# Altium schematic symbol library Passives.SchLib: 73 symbols (part 3 of 3)
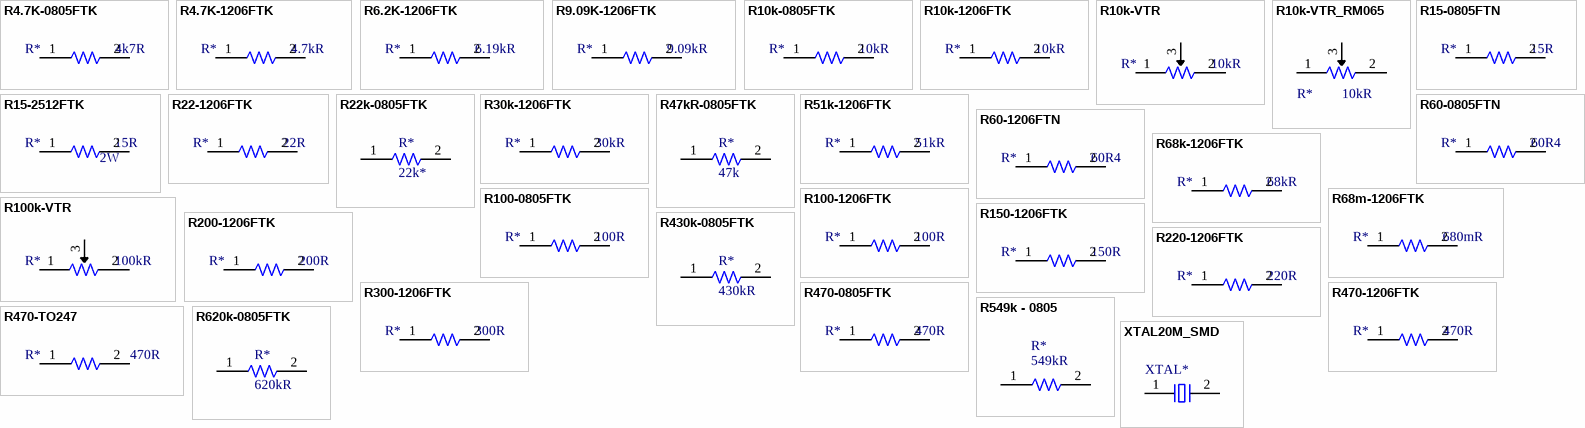
[diagram p3: symbols R4.7K-0805FTK to XTAL20M_SMD]

## R68m-1206FTK
designator R*  Resistance: 680mR
Thick Film Surface Mount Chip Resistor 1206 Size 0.68 Ohm 5% 0.5 W ±100 ppm/°C 2-Pin SMD T/R; Manufacturer 1: Vishay; Manufacturer Part Number 1: RCWE1206R680JKEA; Max Power Dissipation: 500mW; Supplier 1: Avnet; RoHS: Yes; Category: Chip SMD Resistors; Pricing 1: 5000=0,23581, 10000=0,22825, 20000=0,22069, 30000=0,21313, 40000=0,20488, 50000=0,19525, 500000=0,18563 (USD); Case/Package: 1206; Min Operating Temperature: -55°C; Max Operating Temperature: 155°C; Tolerance: 5%; Resistor Type: Thick Film; Packaging: Tape and Reel; Number of Terminations: 2; Temperature Coefficient: 100ppm/°C; Features: Moisture Resistant,Automotive AEC-Q200; Length: 0.122inch; Width: 0.063inch; Height: 0.028inch; Depth: 1.6mm; Military Standard: Not; RoHS Compliant: Yes; ComponentLink1URL: http://www.vishay.com/docs/20019/rcwe.pdf?src-supplier=Digi-Key; ComponentLink1Description: http://www.vishay.com/docs/20019/rcwe.pdf?src-supplier=Digi-Key; Supplier Part Number 1: RCWE1206R680JKEA
footprint R1206FTK-R (Chip Resistor, 2-Leads, Body 3,15x1,60mm, IPC Medium Density)
footprint R1206FTK-W (Chip Resistor, 2-Leads, Body 3,15x1,60mm, IPC Medium Density)
pins: 1, 2

## R100-0805FTK
designator R*, comment Resistance: 100R  (hidden comment: CR0805-FX-1000ELF)
Res Thick Film 0805 100 Ohm 1% 1/8W ±100ppm/°C Molded SMD SMD Paper Tape on Plastic Reel; Manufacturer 1: Bourns; Power Rating: 125mW; Voltage Rating: 150V; .Creator: DR; Supplier 1: Arrow Electronics; Manufacturer Part Number 1: CR0805-FX-1000ELF; RoHS: Yes; Category: Chip SMD Resistors; Stock 1: 49802; Pricing 1: 1=0,05840, 10=0,03430, 25=0,01780, 100=0,00750, 250=0,00560, 500=0,00490, 3000=0,00470 (USD); Mount: Surface Mount; Case/Package: 0805; Number of Pins: 2; Contact Plating: Tin; Case Code (Imperial): 0805; Case Code (Metric): 2012; Min Operating Temperature: -55°C; Max Operating Temperature: 155°C; Tolerance: 1%; Resistor Type: Thick Film; Temperature Coefficient: 100ppm/°C; Packaging: Tape and Reel; Package Quantity: 1; Termination: SMD/SMT; Number of Terminations: 2; Max Power Dissipation: 125mW; Voltage Rating (DC): 150V; Features: Moisture Resistant; Series: CR0805; Resistance Tolerance: 1%; Construction: Rectangular; Technology: THICK FILM; Length: 2mm; Width: 1.25mm; Height: 0.5mm; Depth: 1.25mm; Thickness: 508um; Radiation Hardening: No; REACH SVHC: No SVHC; Military Standard: Not; RoHS Compliant: Yes; ComponentLink1URL: https://datasheet.ciiva.com/11809/0900766b80fcdb72-11809178.pdf?src-supplier=RSComponents; ComponentLink1Description: https://datasheet.ciiva.com/11809/0900766b80fcdb72-11809178.pdf?src-supplier=RSComponents; ComponentLink2URL: https://datasheet.ciiva.com/6547/chpreztr-6547413.pdf?src-supplier=Digi-Key; ComponentLink2Description: https://datasheet.ciiva.com/6547/chpreztr-6547413.pdf?src-supplier=Digi-Key; ComponentLink3URL: https://datasheet.ciiva.com/6547/chpreztr-6547414.pdf?src-supplier=Digi-Key; ComponentLink3Description: https://datasheet.ciiva.com/6547/chpreztr-6547414.pdf?src-supplier=Digi-Key; ComponentLink4URL: https://datasheet.ciiva.com/6547/chpreztr-6547415.pdf?src-supplier=Digi-Key; ComponentLink4Description: https://datasheet.ciiva.com/6547/chpreztr-6547415.pdf?src-supplier=Digi-Key; ComponentLink5URL: https://datasheet.ciiva.com/9120/chpreztr-9120744.pdf?src-supplier=Avnet; ComponentLink5Description: https://datasheet.ciiva.com/9120/chpreztr-9120744.pdf?src-supplier=Avnet; Supplier Part Number 1: CR0805-FX-1000ELF
footprint R0805FTK (Chip Resistor, 2-Leads, Body 2,00x1,25mm, IPC Medium Density)
pins: 1, 2

## R100-1206FTK
designator R*, comment Resistance: 100R  (hidden comment: CRG1206F100R)
Res Thick Film 1206 100 Ohm 1% 0.25W(1/4W) ±200ppm/C Pad SMD T/R; Manufacturer: TE Connectivity; Temperature Coefficient: 200ppm/°C; Max Power Dissipation: 250mW; Voltage Rating: 200V; Number of Resistors: 1; .Creator: AC; Category: Resistor; ComponentLink1Description: Datasheet; ComponentLink1URL: https://docs.rs-online.com/7aab/0900766b815b7339.pdf; ComponentLink2Description: Where buy it; ComponentLink2URL: https://es.rs-online.com/web/p/resistencias-de-montaje-en-superficie/2232120; Supplier 1: Digi-Key; Manufacturer Part Number: CRG1206F100R; RoHS: Yes; Stock 1: 13476; Pricing 1: 1=0,10000, 10=0,07600, 100=0,02920, 1000=0,01285, 2500=0,01110 (USD); Mount: Surface Mount; Case/Package: 1206; Case Code (Imperial): 1206; Case Code (Metric): 3216; Weight: 0.000571oz; Min Operating Temperature: -55°C; Max Operating Temperature: 125°C; Tolerance: 1%; Resistor Type: Thick Film; Packaging: Tape and Reel; Package Quantity: 5000; Number of Terminations: 2; Series: CRG, Neohm; Power Rating: 250mW; Termination: Solder; Technology: THICK FILM; Length: 3.1mm; Width: 1.55mm; Height: 0.55mm; Depth: 1.55mm; Radiation Hardening: No; RoHS Compliant: Yes; ELV: Compliant; ComponentLink3URL: https://datasheet.ciiva.com/11808/0900766b800a696e-11808648.pdf?src-supplier=RSComponents; ComponentLink3Description: https://datasheet.ciiva.com/11808/0900766b800a696e-11808648.pdf?src-supplier=RSComponents; ComponentLink4URL: https://datasheet.ciiva.com/16763/70063020-16763547.pdf?src-supplier=Allied+Electronics; ComponentLink4Description: https://datasheet.ciiva.com/16763/70063020-16763547.pdf?src-supplier=Allied+Electronics; ComponentLink5URL: https://datasheet.ciiva.com/5562/eng-ds-1773204-g-5562604.pdf?src-supplier=Mouser; ComponentLink5Description: https://datasheet.ciiva.com/5562/eng-ds-1773204-g-5562604.pdf?src-supplier=Mouser; Supplier Part Number 1: A106068CT-ND
footprint R1206FTK-R (Chip Resistor, 2-Leads, Body 3,15x1,60mm, IPC Medium Density)
footprint R1206FTK-W (Chip Resistor, 2-Leads, Body 3,15x1,60mm, IPC Medium Density)
pins: 1, 2

## R100k-VTR
designator R*, comment Resistance: 100kR  (hidden comment: 3296W-1-104LF)
Trimmer, Cermet, Rest 100 Kilohms, PCB, 25 Turns, Pwr-Rtg 0.5W, 3296 Series; Manufacturer: Bourns; Tolerance: 10%; Power Rating: 500mW; Temperature Coefficient: 100ppm/°C; Number of Turns: 25; Insulation Resistance: 1GR; .Creator: DO; Supplier 1: RSComponents; Manufacturer Part Number: 3296W-1-104LF; RoHS: Yes; Category: Variable Resistors and Potentiometers; Stock 1: 1; Pricing 1: 1=3,86000, 25=3,63200, 50=3,28400, 100=3,05600, 250=2,73400 (USD); Mount: Panel,Through Hole,PCB; Weight: 0.03oz; Color: Blue; Contact Plating: Tin,Matte; Min Operating Temperature: -55°C; Max Operating Temperature: 125°C; Packaging: Rail/Tube; Package Quantity: 50; Resistor Type: Cermet; Termination: Pin; Taper: Linear; Max Power Dissipation: 500mW; Series: 3296; Technology: CERMET; Resistance Tolerance: 10%; Length: 9.53mm; Width: 9.53mm; Height: 0.395inch; Depth: 4.83mm; Radiation Hardening: No; RoHS Compliant: Yes; REACH SVHC: No SVHC; Lead Free: Lead Free; Military Standard: Not; ComponentLink1URL: https://datasheet.ciiva.com/19454/853599-19454875.pdf?src-supplier=Jameco; ComponentLink1Description: https://datasheet.ciiva.com/19454/853599-19454875.pdf?src-supplier=Jameco; ComponentLink2URL: https://datasheet.ciiva.com/11832/0900766b8069ccf4-11832242.pdf?src-supplier=RSComponents; ComponentLink2Description: https://datasheet.ciiva.com/11832/0900766b8069ccf4-11832242.pdf?src-supplier=RSComponents; ComponentLink3URL: https://datasheet.ciiva.com/29122/447278-da-01-en-trimmer-tht3296w-1-104lf-100k-0-5w-29122363.pdf?src-supplier=Conrad; ComponentLink3Description: https://datasheet.ciiva.com/29122/447278-da-01-en-trimmer-tht3296w-1-104lf-100k-0-5w-29122363.pdf?src-supplier=Conrad; ComponentLink4URL: https://datasheet.ciiva.com/3266/3296-3266188.pdf?src-supplier=Avnet; ComponentLink4Description: https://datasheet.ciiva.com/3266/3296-3266188.pdf?src-supplier=Avnet; ComponentLink5URL: https://datasheet.ciiva.com/25907/3296-25907238.pdf?src-supplier=Avnet+Europe; ComponentLink5Description: https://datasheet.ciiva.com/25907/3296-25907238.pdf?src-supplier=Avnet+Europe; ComponentLink6URL: https://datasheet.ciiva.com/2156/3296-2156895.pdf?src-supplier=Digi-Key; ComponentLink6Description: https://datasheet.ciiva.com/2156/3296-2156895.pdf?src-supplier=Digi-Key; ComponentLink7URL: https://datasheet.ciiva.com/30157/3296-30157434.pdf?src-supplier=Onlinecomponents.com; ComponentLink7Description: https://datasheet.ciiva.com/30157/3296-30157434.pdf?src-supplier=Onlinecomponents.com; ComponentLink8URL: https://datasheet.ciiva.com/20164/68-0300e-20164060.pdf?src-supplier=Rapid+Electronics; ComponentLink8Description: https://datasheet.ciiva.com/20164/68-0300e-20164060.pdf?src-supplier=Rapid+Electronics; ComponentLink9URL: https://datasheet.ciiva.com/18411/70153578-18411565.pdf?src-supplier=Allied+Electronics; ComponentLink9Description: https://datasheet.ciiva.com/18411/70153578-18411565.pdf?src-supplier=Allied+Electronics; ComponentLink10URL: https://datasheet.ciiva.com/1131/1815117-1131274.pdf?src-supplier=Element14; ComponentLink10Description: https://datasheet.ciiva.com/1131/1815117-1131274.pdf?src-supplier=Element14; ComponentLink11Description: Where buy it; ComponentLink11URL: https://es.rs-online.com/web/p/potenciometros-de-ajuste/5219653; Supplier Part Number 1: 5219653P
pins: 1 2, 2, 3

## R150-1206FTK
designator R*, comment Resistance: 150R  (hidden comment: CRG1206F150R)
Res Thick Film 1206 150 Ohm 1% 0.25W(1/4W) ±100ppm/C Pad SMD T/R; Manufacturer: TE Connectivity; Temperature Coefficient: 100ppm/°C; Max Power Dissipation: 250mW; Voltage Rating: 200V; Number of Resistors: 1; .Creator: GP; Category: Resistor; ComponentLink1Description: Datasheet; ComponentLink1URL: https://docs.rs-online.com/5dac/0900766b813e2406.pdf; ComponentLink2Description: Where buy it; ComponentLink2URL: https://es.rs-online.com/web/p/resistencias-de-montaje-en-superficie/2232142; Supplier 1: RSComponents; Manufacturer Part Number: CRG1206F150R; RoHS: Yes; Stock 1: 1; Pricing 1: 50=0,05500, 500=0,05100, 1000=0,04600, 2000=0,04100, 4000=0,03600 (USD); Mount: Surface Mount; Case/Package: 1206; Case Code (Imperial): 1206; Case Code (Metric): 3216; Weight: 0.000571oz; Min Operating Temperature: -55°C; Max Operating Temperature: 125°C; Tolerance: 1%; Packaging: Tape and Reel; Resistor Type: Thick Film; Package Quantity: 5000; Number of Terminations: 2; Series: CRG, Neohm; Power Rating: 250mW; Termination: Solder; Technology: THICK FILM; Length: 3.1mm; Width: 1.55mm; Height: 0.55mm; Depth: 1.55mm; RoHS Compliant: Yes; ELV: Compliant; Supplier Part Number 1: 2232142
footprint R1206FTK-R (Chip Resistor, 2-Leads, Body 3,15x1,60mm, IPC Medium Density)
footprint R1206FTK-W (Chip Resistor, 2-Leads, Body 3,15x1,60mm, IPC Medium Density)
pins: 1, 2

## R200-1206FTK
designator R*, comment Resistance: 200R  (hidden comment: ERJP08F2000V)
Res Thick Film 1206 200 Ohm 1% 0.33W ±100ppm/°C Molded SMD Punched Carrier T/R; Manufacturer: Panasonic; Power Rating: 660mW; Voltage Rating: 500V; Voltage Rating (DC): 200V; .Creator: CP; Category: Resistor; ComponentLink1Description: Datasheet; ComponentLink1URL: https://docs.rs-online.com/ef78/0900766b812cb812.pdf; ComponentLink2Description: Where buy it; ComponentLink2URL: https://es.rs-online.com/web/p/resistencias-de-montaje-en-superficie/7219765; Supplier 1: RSComponents; Manufacturer Part Number: ERJP08F2000V; RoHS: Yes; Stock 1: 1; Pricing 1: 5=0,43800, 50=0,40800, 100=0,38100, 250=0,35400, 500=0,32400 (USD); Mount: Surface Mount; Case/Package: 1206; Number of Pins: 2; Case Code (Imperial): 1206; Case Code (Metric): 3216; Contact Plating: Tin; Min Operating Temperature: -55°C; Max Operating Temperature: 155°C; Tolerance: 1%; Packaging: Tape and Reel; Package Quantity: 5000; Resistor Type: Thick Film; Termination: SMD/SMT; Temperature Coefficient: 100ppm/°C; Length: 3.2mm; Width: 1.6mm; Height: 0.6mm; Depth: 1.6mm; REACH SVHC: No SVHC; Military Standard: Not; RoHS Compliant: Yes; Supplier Part Number 1: 7219765P
footprint R1206FTK-W (Chip Resistor, 2-Leads, Body 3,15x1,60mm, IPC Medium Density)
footprint R1206FTK-R (Chip Resistor, 2-Leads, Body 3,15x1,60mm, IPC Medium Density)
pins: 1, 2

## R220-1206FTK
designator R*, comment Resistence: 220R  (hidden comment: CMP1206AFX-2200ELF)
Resistor, ResHighPowerA 1206 220R 1% 3/4W TC100; Manufacturer: Bourns; .Creator: GP; Supplier 1: Newark; Manufacturer Part Number: CMP1206AFX-2200ELF; RoHS: Yes; Category: Chip SMD Resistors; Stock 1: 5050; Pricing 1: 1=0,39000, 25=0,25600, 50=0,18500, 100=0,11400, 250=0,11000, 500=0,10700 (USD); Supplier Part Number 1: 76AH2292; ComponentLink1Description: Where buy it; ComponentLink1URL: https://www.mouser.es/ProductDetail/Bourns/CMP1206AFX-2200ELF?qs=TiOZkKH1s2Sl2IuwMb%2Fi2w%3D%3D; ComponentLink2Description: Datasheet; ComponentLink2URL: https://www.mouser.es/datasheet/2/54/cmp_a-1869326.pdf
footprint R1206FTK-R (Chip Resistor, 2-Leads, Body 3,15x1,60mm, IPC Medium Density)
footprint R1206FTK-W (Chip Resistor, 2-Leads, Body 3,15x1,60mm, IPC Medium Density)
pins: 1, 2

## R300-1206FTK
designator R*, comment Resistance: 300R  (hidden comment: CRCW1206300RFKEA)
Resistor;  Thick Film;  300 Ohms;  0.25 W;  1%;  SMT;  1206;  TCR 37 ppm/DegC;  Tape and Reel; Manufacturer: Vishay; Temperature Coefficient: 100ppm/°C; Max Power Dissipation: 250mW; Voltage Rating: 200V; .Creator: DO; Category: Resistor; ComponentLink1Description: Datasheet; ComponentLink1URL: https://docs.rs-online.com/6ae4/0900766b8172839d.pdf; ComponentLink2Description: Where buy it; ComponentLink2URL: https://es.rs-online.com/web/p/resistencias-de-montaje-en-superficie/6792027; Supplier 1: Digi-Key; Manufacturer Part Number: CRCW1206300RFKEA; RoHS: Yes; Stock 1: 38; Pricing 1: 1=0,10000, 10=0,08200, 100=0,03160, 1000=0,01392, 2500=0,01202 (USD); Mount: Surface Mount; Case/Package: 1206; Contact Plating: Tin; Weight: 0.000353oz; Case Code (Metric): 3216; Case Code (Imperial): 1206; Min Operating Temperature: -55°C; Max Operating Temperature: 155°C; Tolerance: 1%; Resistor Type: Thick Film; Packaging: Tape and Reel; Number of Terminations: 2; Features: Automotive AEC-Q200; Series: CRCW; Power Rating: 250mW; Package Quantity: 10; Termination: SMD/SMT; Voltage Rating (DC): 200V; Working Voltage: 200V; Resistance Tolerance: 1%; Technology: THICK FILM; Construction: Rectangular; Length: 3.2mm; Width: 0.063inch; Height: 0.55mm; Depth: 1.6mm; Radiation Hardening: No; Lead Free: Lead Free; RoHS Compliant: Yes; REACH SVHC: Unknown; Military Standard: Not; Supplier Part Number 1: 541-300FCT-ND
footprint R1206FTK-R (Chip Resistor, 2-Leads, Body 3,15x1,60mm, IPC Medium Density)
footprint R1206FTK-W (Chip Resistor, 2-Leads, Body 3,15x1,60mm, IPC Medium Density)
pins: 1, 2

## R430k-0805FTK
designator R*, comment 430kR
footprint R0805FTK (Chip Resistor, 2-Leads, Body 2,00x1,25mm, IPC Medium Density)
pins: 1, 2

## R470-0805FTK
designator R*, comment Resistance: 470R  (hidden comment: CR0805-FX-4700GLF)
Res Thick Film 0805 470 Ohm 1% 1/8W ±100ppm/°C Molded SMD SMD Paper Tape on Plastic Reel; Manufacturer 1: Bourns; Power Rating: 125mW; Voltage Rating: 150V; .Creator: DR; Supplier 1: Arrow Electronics; Manufacturer Part Number 1: CR0805-FX-4700GLF; RoHS: Yes; Category: Chip SMD Resistors; Stock 1: 12623; Pricing 1: 1=0,00990, 10=0,00980, 25=0,00950, 50=0,00940, 100=0,00930, 250=0,00920, 500=0,00910, 1000=0,00890, 3000=0,00870, 6000=0,00860 (USD); Mount: Surface Mount; Case/Package: 0805; Number of Pins: 2; Case Code (Imperial): 0805; Case Code (Metric): 2012; Contact Plating: Tin; Min Operating Temperature: -55°C; Max Operating Temperature: 155°C; Packaging: Tape and Reel; Tolerance: 1%; Resistor Type: Thick Film; Termination: SMD/SMT; Temperature Coefficient: 100ppm/°C; Voltage Rating (DC): 150V; Features: Moisture Resistant; Series: CR0805; Max Power Dissipation: 125mW; Number of Terminations: 2; Resistance Tolerance: 1%; Construction: Rectangular; Technology: THICK FILM; Length: 2mm; Height: 0.5mm; Depth: 1.25mm; Thickness: 508um; Radiation Hardening: No; REACH SVHC: No SVHC; Military Standard: Not; ComponentLink1URL: https://datasheet.ciiva.com/11808/0900766b80fcdb72-11808686.pdf?src-supplier=RSComponents; ComponentLink1Description: https://datasheet.ciiva.com/11808/0900766b80fcdb72-11808686.pdf?src-supplier=RSComponents; ComponentLink2URL: https://datasheet.ciiva.com/7985/1856384-7985880.pdf?src-supplier=Element14; ComponentLink2Description: https://datasheet.ciiva.com/7985/1856384-7985880.pdf?src-supplier=Element14; ComponentLink3URL: https://datasheet.ciiva.com/22693/1902866-22693247.pdf?src-supplier=Element14; ComponentLink3Description: https://datasheet.ciiva.com/22693/1902866-22693247.pdf?src-supplier=Element14; ComponentLink4URL: https://datasheet.ciiva.com/5541/chpreztr-5541930.pdf?src-supplier=Mouser; ComponentLink4Description: https://datasheet.ciiva.com/5541/chpreztr-5541930.pdf?src-supplier=Mouser; Supplier Part Number 1: CR0805-FX-4700GLF
footprint R0805FTK (Chip Resistor, 2-Leads, Body 2,00x1,25mm, IPC Medium Density)
pins: 1, 2

## R470-1206FTK
designator R*, comment Resistance: 470R  (hidden comment: RCC1206470RFKEA)
Res Thick Film 1206 470 Ohm 1% 1/2W ±100ppm/°C Molded SMD; Manufacturer: Vishay Dale; .Creator: AC; Supplier 1: Newark; RoHS: Yes; Stock 1: 3700; Pricing 1: 10=0,22000, 25=0,17500, 50=0,13000, 100=0,08600, 250=0,06900, 500=0,05200, 1000=0,03500 (USD); Supplier Part Number 1: 45AJ7205; Manufacturer Part Number: RCC1206470RFKEA; ComponentLink1Description: Where buy it; ComponentLink1URL: https://www.mouser.es/ProductDetail/Vishay-Dale/RCC1206470RFKEA?qs=sGAEpiMZZMvdGkrng054twq3eZrCFN897p18zMH0sI9ArskKyJc2dg%3D%3D; ComponentLink2Description: Datasheet; ComponentLink2URL: https://www.mouser.es/datasheet/2/427/rcce3-2897337.pdf
footprint R1206FTK-R (Chip Resistor, 2-Leads, Body 3,15x1,60mm, IPC Medium Density)
footprint R1206FTK-W (Chip Resistor, 2-Leads, Body 3,15x1,60mm, IPC Medium Density)
pins: 1, 2

## R470-TO247
designator R*  Resistance: 470R  (hidden comment: R470-TO247)
Manufacturer: TE Connectivity; Manufacturer Part Number: MPT100C470RF; Supplier 1: RSComponents; RoHS: No; Stock 1: 67; Pricing 1: 1=16,67000, 5=15,51000, 10=14,17000, 25=12,67000, 50=11,50000 (GBP); Supplier Part Number 1: 1955176; ComponentLink1Description: Buy; ComponentLink1URL: https://es.rs-online.com/web/p/resistencias-de-montaje-en-orificio-pasante/1955176; ComponentLink2Description: Datasheet; ComponentLink2URL: https://docs.rs-online.com/e31c/A700000006565355.pdf
footprint RTO247 (Footprint not found)
pins: 1, 2

## R549k - 0805
designator R*, comment 549kR
footprint R0805FTK (Chip Resistor, 2-Leads, Body 2,00x1,25mm, IPC Medium Density)
pins: 1, 2

## R620k-0805FTK
designator R*, comment 620kR
footprint R0805FTK (Chip Resistor, 2-Leads, Body 2,00x1,25mm, IPC Medium Density)
pins: 1, 2

## XTAL20M_SMD
designator XTAL*, comment 830028710  (value not drawn)
830028710, 20 MHz; Manufacturer: Würth Elektronik; Frequency: 20 MHz; Frequency Stability: +-50 ppm; Drive level: 500µW max; .Creator: GP; Category: XTAL; ComponentLink1Description: Datasheet; ComponentLink1URL: https://www.we-online.com/catalog/datasheet/830028710.pdf; ComponentLink2Description: Where buy it; Package: *; Manufacturer part number: 830028710; Supplier: Würth Elektronik; Packaging: Reel; Max operating temperature.: 85ºC; Min operating temperature: -40ºC; Max power dissipation: *; Power rating: *; RoHS: Yes; Number of pins: 2; Type: SMD; Supplier 1: Digi-Key; Stock 1: 975; Pricing 1: 1=0,37000, 10=0,28100, 50=0,26800, 100=0,24400, 500=0,22000 (USD); Supplier Part Number 1: 1923-830028710CT-ND
footprint XTAL20M_SMD
pins: 1, 2